# Altium footprint library PCB Base oximetro.PcbLib: 17 footprints (part 2 of 2)
Each footprint in its own frame and in the unit in brackets; x right, y up, seen from the top. Pads: shape width x height; smd on the part's side, far side on the other; paste and mask are expansions set on the pad; w line width, h text height; cw(c..) or ccw(c..) is an arc to the next point about the centre after c.
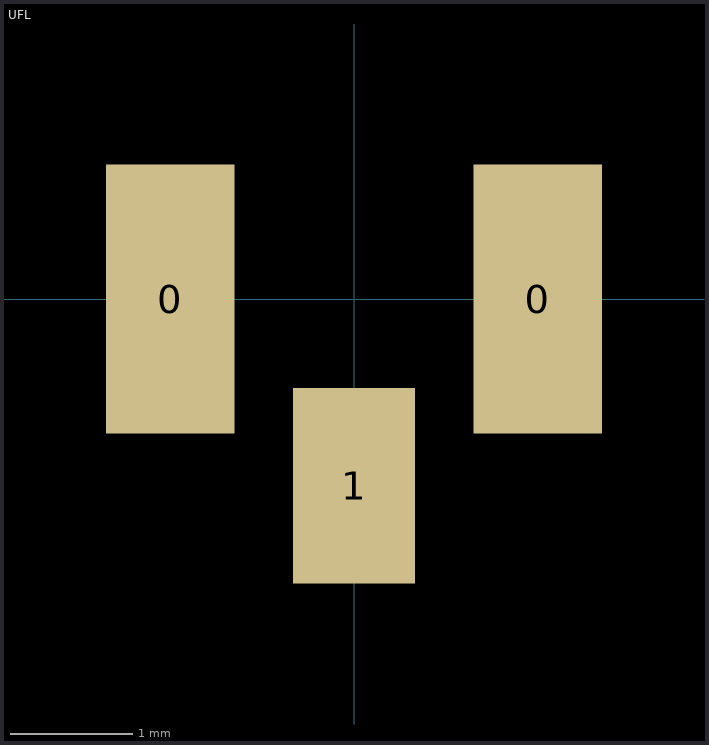
[diagram p1: the footprint, top view; thin cyan lines are the x and y axes]

## UFL [mm]
pads (3):
  rect 1.05x2.2 smd: 0(-1.5,0) 0(1.5,0)
  rect 1x1.6 smd: 1(0,-1.525)